# Altium schematic symbol library mouser_68pin_connector.SchLib: 2 symbols
Pins are listed as number, name and electrical type; pins without a type are passive.

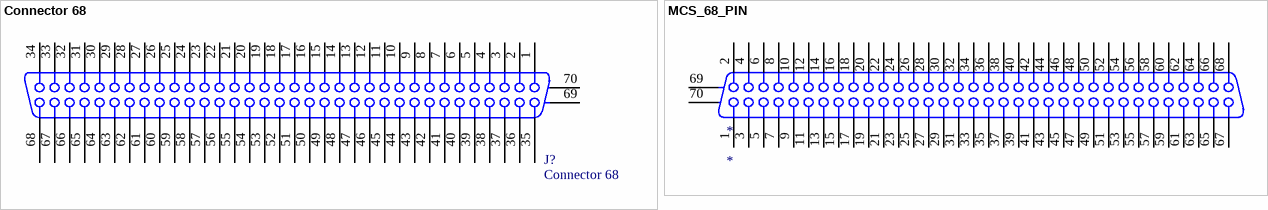
[diagram p0: symbols Connector 68 to MCS_68_PIN]

## Connector 68
designator J?
Receptacle Header Assemby; Manufacturer: TE Connectivity; ManufacturerPartNumber: 5787394-7; Pricing1: 1=12.47;  10=11.926;  25=10.842;  50=10.3;  100=10.029;  250=8.9448;  500=8.40268;  1000=7.42689  (CAD); Supplier 1: Digi-Key; SupplierLink1: https://www.digikey.ca/products/en?keywords=A33513-ND; SupplierPartNumber1: A33513-ND; ComponentLink1Description: Datasheet; ComponentLink1URL: http://www.te.com/commerce/DocumentDelivery/DDEController?Action=srchrtrv&DocNm=5787394&DocType=Customer+Drawing&DocLang=English; Stock1: 2053
footprint CHAMP1.27-2H68_T (Connector; 68 Position; Right Angle; Pitch 1.27 mm)
signal-integrity model Connector
pins: 1, 2, 3, 4, 5, 6, 7, 8, 9, 10, 11, 12, 13, 14, 15, 16, 17, 18, 19, 20, 21, 22, 23, 24, 25, 26, 27, 28, 29, 30, 31, 32, 33, 34, 35, 36, 37, 38, 39, 40, 41, 42, 43, 44, 45, 46, 47, 48, 49, 50, 51, 52, 53, 54, 55, 56, 57, 58, 59, 60, 61, 62, 63, 64, 65, 66, 67, 68, 69 MH1, 70 MH2

## MCS_68_PIN
designator *
footprint CHAMP1.27-2H68_T (Connector; 68 Position; Right Angle; Pitch 1.27 mm)
pins: 1, 2, 3, 4, 5, 6, 7, 8, 9, 10, 11, 12, 13, 14, 15, 16, 17, 18, 19, 20, 21, 22, 23, 24, 25, 26, 27, 28, 29, 30, 31, 32, 33, 34, 35, 36, 37, 38, 39, 40, 41, 42, 43, 44, 45, 46, 47, 48, 49, 50, 51, 52, 53, 54, 55, 56, 57, 58, 59, 60, 61, 62, 63, 64, 65, 66, 67, 68, 69 MH1, 70 MH2